# Altium schematic symbol library SWTPcbLib1.SchLib: 15 symbols
Pins are listed as number, name and electrical type; pins without a type are passive.

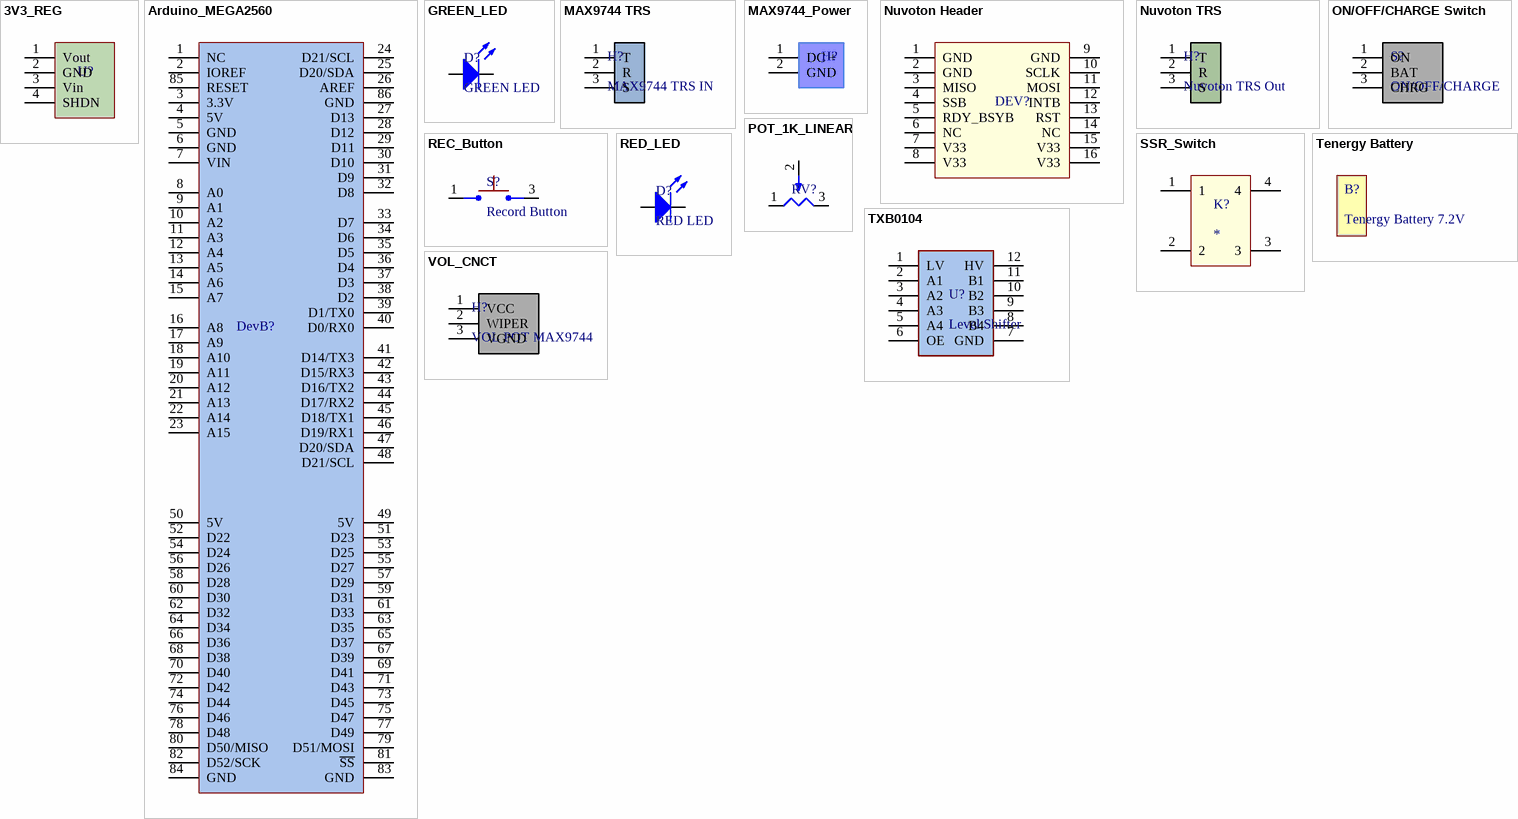
[diagram p0: symbols 3V3_REG to VOL_CNCT]

## 3V3_REG
designator U?  (value not drawn)
Pololu 3V3 Regulator 600mA
footprint 3V3 REG (Pololu 3V3 Regulator 600mA)
pins: 1 Vout, 2 GND, 3 Vin, 4 SHDN

## Arduino_MEGA2560
designator DevB?  (value not drawn)
Arduino Mega Footprint
footprint Arduino Mega (Mega 2650)
pins: 1 NC, 2 IOREF, 3 3.3V, 4 5V, 5 GND, 6 GND, 7 VIN, 8 A0, 9 A1, 10 A2, 11 A3, 12 A4, 13 A5, 14 A6, 15 A7, 16 A8, 17 A9, 18 A10, 19 A11, 20 A12, 21 A13, 22 A14, 23 A15, 24 D21/SCL, 25 D20/SDA, 26 AREF, 27 D13, 28 D12, 29 D11, 30 D10, 31 D9, 32 D8, 33 D7, 34 D6, 35 D5, 36 D4, 37 D3, 38 D2, 39 D1/TX0, 40 D0/RX0, 41 D14/TX3, 42 D15/RX3, 43 D16/TX2, 44 D17/RX2, 45 D18/TX1, 46 D19/RX1, 47 D20/SDA, 48 D21/SCL, 49 5V, 50 5V, 51 D23, 52 D22, 53 D25, 54 D24, 55 D27, 56 D26, 57 D29, 58 D28, 59 D31, 60 D30, 61 D33, 62 D32, 63 D35, 64 D34, 65 D37, 66 D36, 67 D39, 68 D38, 69 D41, 70 D40, 71 D43, 72 D42, 73 D45, 74 D44, 75 D47, 76 D46, 77 D49, 78 D48, 79 D51/MOSI, 80 D50/MISO, 81 ~{SS}, 82 D52/SCK, 83 GND, 84 GND, 85 RESET, 86 GND
text: Bottom 2X18

## GREEN_LED
designator D?, comment GREEN LED
footprint GREEN_LED (GREEN LED)
pins: 1 K, 2 A

## MAX9744 TRS
designator H?, comment MAX9744 TRS IN
Headphone jack TRS Connection MAX9744
footprint TRS Footprint (TRS Headphone connections)
pins: 1 T, 2 R, 3 S

## MAX9744_Power
designator H?  (value not drawn)
Max9744 power connection
footprint Max9744_Power (Header for power connection)
pins: 1 DC +, 2 GND

## Nuvoton Header
designator DEV?  (value not drawn)
Nuvoton Chipcorder Dev Board
footprint Nuvoton 8X2
pins: 1 GND, 2 GND, 3 MISO, 4 SSB, 5 RDY_BSYB, 6 NC, 7 V33, 8 V33, 9 GND, 10 SCLK, 11 MOSI, 12 INTB, 13 RST, 14 NC, 15 V33, 16 V33

## Nuvoton TRS
designator H?, comment Nuvoton TRS Out
Headphone jack TRS Connector out
footprint TRS Footprint (TRS Headphone connections)
pins: 1 T, 2 R, 3 S

## ON/OFF/CHARGE Switch
designator S?, comment ON/OFF/CHARGE
ON/OFF/CHARGE Switch
footprint ON/OFF/CHARGE Switch
pins: 1 ON, 2 BAT, 3 CHRG

## POT_1K_LINEAR
designator RV?  (value not drawn)
1K Pot
footprint POT_1K_LINEAR (1K Potentiometer Linear)
pins: 1, 2, 3

## REC_Button
designator S?, comment Record Button
SPST MOM
footprint REC_Button
footprint REC_BUTTON Tactile (Tactile Switch)
pins: 1, 3

## RED_LED
designator D?, comment RED LED
footprint RED_LED (RED LED)
pins: 1 K, 2 A

## SSR_Switch
designator K?
SSR_Switch, Panasonic Electric Works, AQY212GSX
footprint SSR_Switch (Solid State Relay)
pins: 1, 2, 3, 4

## Tenergy Battery
designator B?, comment Tenergy Battery 7.2V
Tenergy 7.2V Battery. 31003

## TXB0104
designator U?, comment Level Shifter
Adafruit TXB0104 Logic Level Shifter
footprint TXB0104 (Logic Level Shifter)
pins: 1 LV, 2 A1, 3 A2, 4 A3, 5 A4, 6 OE, 7 GND, 8 B4, 9 B3, 10 B2, 11 B1, 12 HV

## VOL_CNCT
designator H?, comment VOL POT MAX9744
Volume Pot Board Connection
footprint VOL POT CNCT (3xHeader for MAX9744 Module Volume Pot)
pins: 1 VCC, 2 WIPER, 3 VGND